# EAGLE library part RT9293 (library RT9293)
USB Filter with ESD Protection Source: http://www.onsemi.com/pub_link/Collateral/NUF2101M-D.PDF
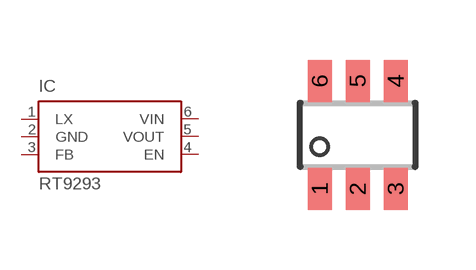
[diagram p0: symbol with the pads of SOT23-6; footprint SOT23-6]

Designator prefix IC

## RT9293 (MF: ON Semiconductor; MPN: NUF2101MT1; OC_FARNELL: unknown; OC_NEWARK: unknown), RT9293G (MF: ON Semiconductor; MPN: NUF2101MT1G; OC_FARNELL: unknown; OC_NEWARK: 04R7860)  [SOT23-6]
1  LX  pas
2  GND  pas
3  FB  pas
4  EN  pas
5  VOUT  pas
6  VIN  pas

## Footprint SOT23-6 (pad centres in mm)
SOT-23-6 (TSOP-6) Plastic Small Outline - 6-Lead Package
smd 0.6 x 1.05: 1 -0.95,-1.35; 2 0,-1.35; 3 0.95,-1.35; 4 0.95,1.35; 5 0,1.35; 6 -0.95,1.35